# Altium footprint library SnapEDApcb.PcbLib: 1 footprints
Each footprint in its own frame and in the unit in brackets; x right, y up, seen from the top. Pads: shape width x height; smd on the part's side, far side on the other; paste and mask are expansions set on the pad; w line width, h text height; cw(c..) or ccw(c..) is an arc to the next point about the centre after c.
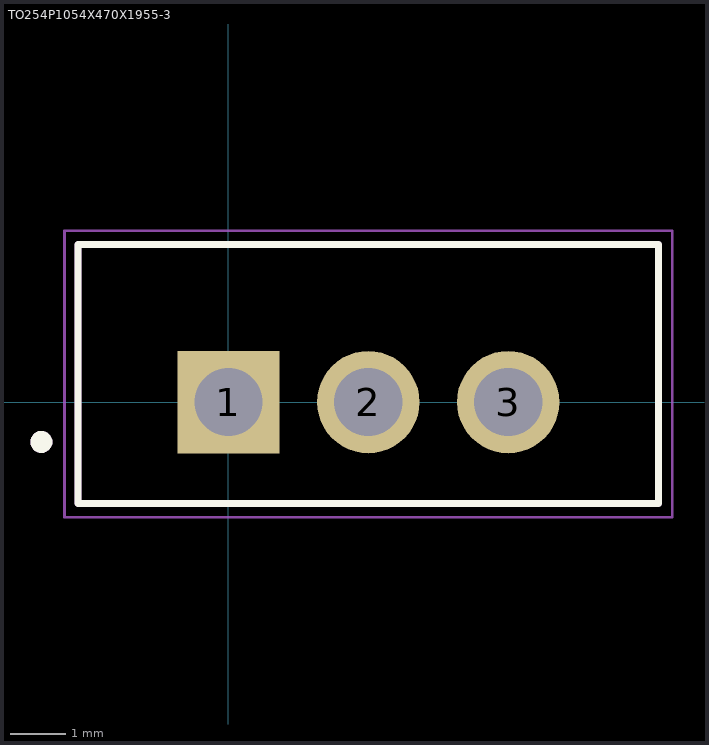
[diagram p0: the footprint, top view; thin cyan lines are the x and y axes]

## TO254P1054X470X1955-3 [mm]
pads (3):
  rect 1.86x1.86 hole 1.24: 1(0,0)
  round 1.86 hole 1.24: 2(2.54,0) 3(5.08,0)
Top Overlay:
  circle w0.2: c-3.4,-0.724 r0.1
  lines w0.127: -2.73,-1.84 7.81,-1.84 7.81,2.86 -2.73,2.86 -2.73,-1.84
Mechanical 13:
  circle w0.2: c-3.4,-0.724 r0.1
  lines w0.127: -2.73,-1.84 7.81,-1.84 7.81,2.86 -2.73,2.86 -2.73,-1.84
Mechanical 15:
  lines w0.05: -2.98,-2.09 8.06,-2.09 8.06,3.11 -2.98,3.11 -2.98,-2.09
3D body "transistor_layout.stp": height 19.77, standoff -8.7, extent -2.44,-1.646 7.62,2.794